# EAGLE library part ZUS15_1205 (library takeyama)
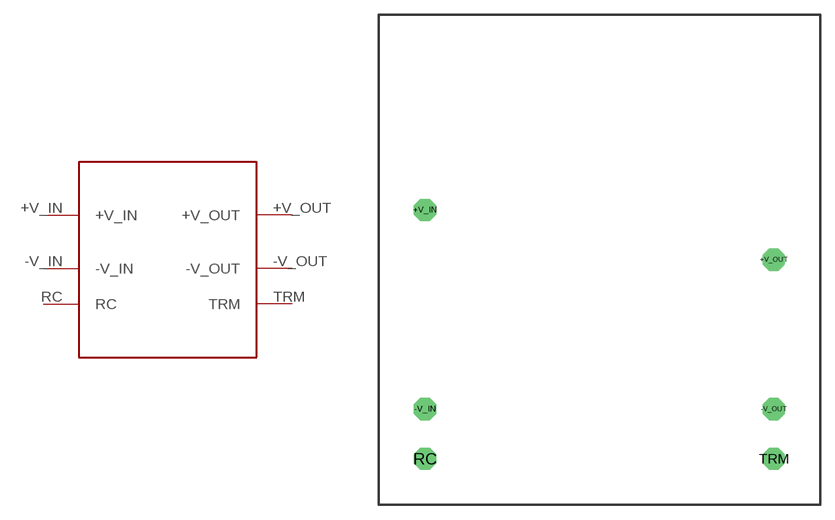
[diagram p1: symbol with the pads of ZUS15_1205; footprint ZUS15_1205]

Designator prefix -

## ZUS15_1205  [ZUS15_1205]
+V_IN  +V_IN
+V_OUT  +V_OUT
-V_IN  -V_IN
-V_OUT  -V_OUT
RC  RC
TRM  TRM

## Footprint ZUS15_1205 (pad centres in mm)
drill 1.5 octagon: +V_IN -17.78,5.08; +V_OUT 17.78,0; -V_IN -17.78,-15.24; -V_OUT 17.78,-15.24; RC -17.78,-20.32; TRM 17.78,-20.32